# Altium footprint library MyPcbLib.PcbLib: 19 footprints (part 2 of 2)
Each footprint in its own frame and in the unit in brackets; x right, y up, seen from the top. Pads: shape width x height; smd on the part's side, far side on the other; paste and mask are expansions set on the pad; w line width, h text height; cw(c..) or ccw(c..) is an arc to the next point about the centre after c.
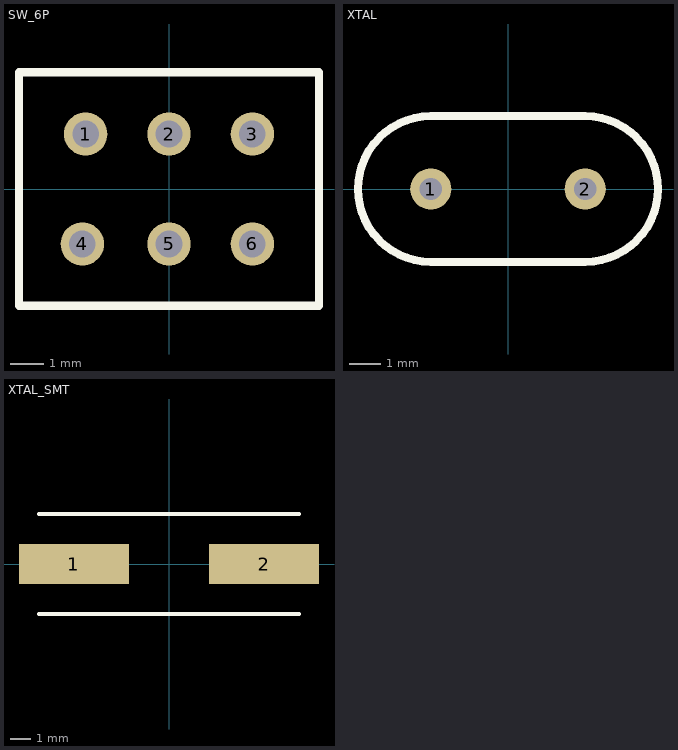
[diagram p1: the footprints below, top view; thin cyan lines are the x and y axes]

## SW_6P [mm]
pads (6):
  round 1.3 hole 0.8: 1(-2.5,1.65) 2(0,1.65) 3(2.5,1.65) 4(-2.6,-1.65) 5(0,-1.65) 6(2.5,-1.65)
Top Overlay:
  lines w0.254: -4.5,-3.5 -4.5,3.5 4.5,3.5 4.5,-3.5 -4.5,-3.5

## XTAL [mm]
pads (2):
  round 1.3 hole 0.7: 1(-2.44,0) 2(2.44,0)
Top Overlay:
  lines w0.254: -2.44,-2.3 cw(c-2.44,0) -2.44,2.3 2.44,2.3 cw(c2.44,0) 2.44,-2.3 -2.44,-2.3

## XTAL_SMT [mm]
height 4
pads (2):
  rect 5.5x2 smd paste+0: 1(-4.75,0) 2(4.75,0)
Top Overlay:
  lines w0.2: -6.5,-2.5 6.5,-2.5 ; -6.5,2.5 6.5,2.5